# EAGLE library part OKOKOKEAGLELIBRARIES_LTC6240 (library rose)
DATASHEET: http://cds.linear.com/docs/en/datasheet/624012fe.pdf The LTC®6240/6241/LTC6242 are single, dual and quad low noise, low offset, rail-to-rail output, unity gain stable CMOS op amps that feature 1pA of input bias current. Input bias current is guaranteed to be 1pA max on the single LTC6240. The 0.1Hz to 10Hz noise of only 550nVP-P, along with an offset of just 125μV are signifi cant improvements over traditional CMOS op amps. Additionally, noise is guaranteed to be less than 10nV/√Hz at 1kHz. An 18MHz gain bandwidth, and 10V/μs slew rate, along with the wide supply range and low input capacitance, make them perfect for use as fast signal processing amplifi ers.
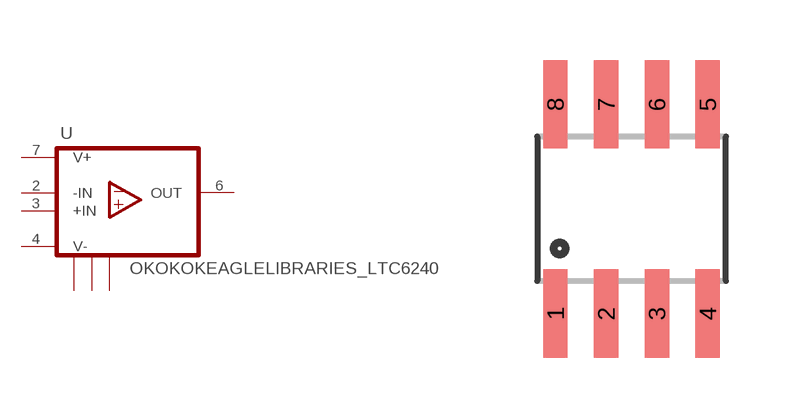
[diagram p5: symbol with the pads of OKOKOKEAGLELIBRARIES_SOIC-8; footprint OKOKOKEAGLELIBRARIES_SOIC-8]

Designator prefix U

## OKOKOKEAGLELIBRARIES_LTC6240 (MPN: LTC6240CS8#PBF)  [OKOKOKEAGLELIBRARIES_SOIC-8]
1  NC1  nc
2  -IN
3  +IN
4  V-
5  NC5  nc
6  OUT
7  V+
8  NC8  nc

## Footprint OKOKOKEAGLELIBRARIES_SOIC-8 (pad centres in mm)
smd 0.61 x 2.21: 1 -1.905,-2.616; 2 -0.635,-2.616; 3 0.635,-2.616; 4 1.905,-2.616; 5 1.905,2.616; 6 0.635,2.616; 7 -0.635,2.616; 8 -1.905,2.616